# Altium footprint library Pads.PcbLib: 1 footprints
Each footprint in its own frame and in the unit in brackets; x right, y up, seen from the top. Pads: shape width x height; smd on the part's side, far side on the other; paste and mask are expansions set on the pad; w line width, h text height; cw(c..) or ccw(c..) is an arc to the next point about the centre after c.
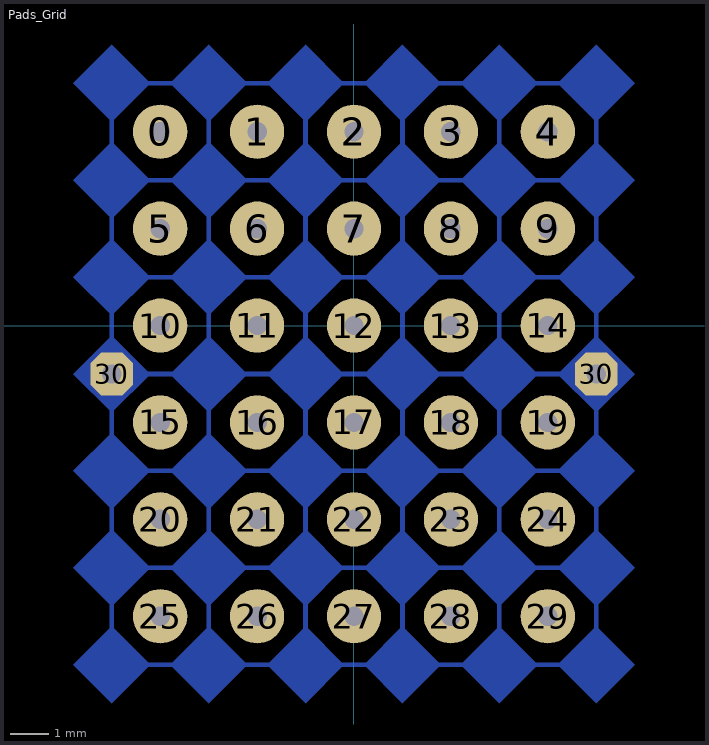
[diagram p0: the footprint, top view; thin cyan lines are the x and y axes]

## Pads_Grid [mm]
pads (32):
  round 1.4 hole 0.5: 0(-5,5) 1(-2.5,5) 2(0,5) 3(2.5,5) 4(5,5) 5(-5,2.5) 6(-2.5,2.5) 7(0,2.5) 8(2.5,2.5) 9(5,2.5) 10(-5,0) 11(-2.5,0) 12(0,0) 13(2.5,0) 14(5,0) 15(-5,-2.5) 16(-2.5,-2.5) 17(0,-2.5) 18(2.5,-2.5) 19(5,-2.5) 20(-5,-5) 21(-2.5,-5) 22(0,-5) 23(2.5,-5) 24(5,-5) 25(-5,-7.5) 26(-2.5,-7.5) 27(0,-7.5) 28(2.5,-7.5) 29(5,-7.5)
  oct 1.1x1.1 hole 0.5: 30(-6.25,-1.25) 30(6.25,-1.25)
Bottom Layer:
  region: 6.25,-2.25 7.25,-1.25 6.25,-0.25 5.25,-1.25
  region: -6.25,5.25 -5.25,6.25 -6.25,7.25 -7.25,6.25
  region: -6.25,2.75 -5.25,3.75 -6.25,4.75 -7.25,3.75
  region: -6.25,0.25 -5.25,1.25 -6.25,2.25 -7.25,1.25
  region: -6.25,-2.25 -5.25,-1.25 -6.25,-0.25 -7.25,-1.25
  region: -6.25,-4.75 -5.25,-3.75 -6.25,-2.75 -7.25,-3.75
  region: -6.25,-7.25 -5.25,-6.25 -6.25,-5.25 -7.25,-6.25
  region: -6.25,-9.75 -5.25,-8.75 -6.25,-7.75 -7.25,-8.75
  region: -3.75,-9.75 -2.75,-8.75 -3.75,-7.75 -4.75,-8.75
  region: -1.25,-9.75 -0.25,-8.75 -1.25,-7.75 -2.25,-8.75
  region: 1.25,-9.75 2.25,-8.75 1.25,-7.75 0.25,-8.75
  region: 3.75,-9.75 4.75,-8.75 3.75,-7.75 2.75,-8.75
  region: 6.25,-9.75 7.25,-8.75 6.25,-7.75 5.25,-8.75
  region: 6.25,-7.25 7.25,-6.25 6.25,-5.25 5.25,-6.25
  region: 6.25,-4.75 7.25,-3.75 6.25,-2.75 5.25,-3.75
  region: 6.25,0.25 7.25,1.25 6.25,2.25 5.25,1.25
  region: 6.25,5.25 7.25,6.25 6.25,7.25 5.25,6.25
  region: 6.25,2.75 7.25,3.75 6.25,4.75 5.25,3.75
  region: 3.75,5.25 4.75,6.25 3.75,7.25 2.75,6.25
  region: 1.25,5.25 2.25,6.25 1.25,7.25 0.25,6.25
  region: -1.25,5.25 -0.25,6.25 -1.25,7.25 -2.25,6.25
  region: -3.75,5.25 -2.75,6.25 -3.75,7.25 -4.75,6.25
  region: -3.75,-7.25 -2.75,-6.25 -3.75,-5.25 -4.75,-6.25
  region: -1.25,-7.25 -0.25,-6.25 -1.25,-5.25 -2.25,-6.25
  region: 1.25,-7.25 2.25,-6.25 1.25,-5.25 0.25,-6.25
  region: 3.75,-7.25 4.75,-6.25 3.75,-5.25 2.75,-6.25
  region: 3.75,-4.75 4.75,-3.75 3.75,-2.75 2.75,-3.75
  region: 1.25,-4.75 2.25,-3.75 1.25,-2.75 0.25,-3.75
  region: -1.25,-4.75 -0.25,-3.75 -1.25,-2.75 -2.25,-3.75
  region: -3.75,-4.75 -2.75,-3.75 -3.75,-2.75 -4.75,-3.75
  region: -3.75,-2.25 -2.75,-1.25 -3.75,-0.25 -4.75,-1.25
  region: 3.75,2.75 4.75,3.75 3.75,4.75 2.75,3.75
  region: 1.25,2.75 2.25,3.75 1.25,4.75 0.25,3.75
  region: -1.25,2.75 -0.25,3.75 -1.25,4.75 -2.25,3.75
  region: -3.75,2.75 -2.75,3.75 -3.75,4.75 -4.75,3.75
  region: -3.75,0.25 -2.75,1.25 -3.75,2.25 -4.75,1.25
  region: 3.75,0.25 4.75,1.25 3.75,2.25 2.75,1.25
  region: 3.75,-2.25 4.75,-1.25 3.75,-0.25 2.75,-1.25
  region: -1.25,-2.25 -0.25,-1.25 -1.25,-0.25 -2.25,-1.25
  region: -1.25,0.25 -0.25,1.25 -1.25,2.25 -2.25,1.25
  region: 1.25,0.25 2.25,1.25 1.25,2.25 0.25,1.25
  region: 1.25,-2.25 2.25,-1.25 1.25,-0.25 0.25,-1.25
  lines w0.12: -6.25,-6.25 -6.25,-8.75 -3.75,-8.75 ; -6.25,-6.25 -6.25,-3.75 ; -6.25,-6.25 -3.75,-6.25 ; -6.25,-3.75 -6.25,-1.25 ; -6.25,-3.75 -3.75,-3.75 ; -6.25,-1.25 -6.25,1.25 ; -6.25,-1.25 -3.75,-1.25 ; -6.25,1.25 -6.25,3.75 ; -6.25,1.25 -3.75,1.25 ; -6.25,3.75 -6.25,6.25 -3.75,6.25 ; -6.25,3.75 -3.75,3.75 ; -3.75,-8.75 -3.75,-6.25 ; -3.75,-8.75 -1.25,-8.75 ; -3.75,-6.25 -1.25,-6.25 ; -3.75,-6.25 -3.75,-3.75 ; -3.75,-3.75 -1.25,-3.75 ; -3.75,-3.75 -3.75,-1.25 ; -3.75,-1.25 -3.75,1.25 ; -3.75,-1.25 -1.25,-1.25 ; -3.75,1.25 -1.25,1.25 ; -3.75,1.25 -3.75,3.75 ; -3.75,3.75 -3.75,6.25 ; -3.75,3.75 -1.25,3.75 ; -3.75,6.25 -1.25,6.25 ; -1.25,-8.75 -1.25,-6.25 ; -1.25,-8.75 1.25,-8.75 ; -1.25,-6.25 1.25,-6.25 ; -1.25,-6.25 -1.25,-3.75 ; -1.25,-3.75 1.25,-3.75 ; -1.25,-3.75 -1.25,-1.25 ; -1.25,-1.25 -1.25,1.25 ; -1.25,-1.25 1.25,-1.25 ; -1.25,1.25 1.25,1.25 ; -1.25,1.25 -1.25,3.75 ; -1.25,3.75 -1.25,6.25 ; -1.25,3.75 1.25,3.75 ; -1.25,6.25 1.25,6.25 ; 1.25,-8.75 1.25,-6.25 ; 1.25,-8.75 3.75,-8.75 ; 1.25,-6.25 3.75,-6.25 ; 1.25,-6.25 1.25,-3.75 ; 1.25,-3.75 3.75,-3.75 ; 1.25,-3.75 1.25,-1.25 ; 1.25,-1.25 1.25,1.25 ; 1.25,-1.25 3.75,-1.25 ; 1.25,1.25 3.75,1.25 ; 1.25,1.25 1.25,3.75 ; 1.25,3.75 1.25,6.25 ; 1.25,3.75 3.75,3.75 ; 1.25,6.25 3.75,6.25 ; 3.75,-8.75 3.75,-6.25 ; 3.75,-8.75 6.25,-8.75 6.25,-6.25 ; 3.75,-6.25 6.25,-6.25 ; 3.75,-6.25 3.75,-3.75 ; 3.75,-3.75 6.25,-3.75 ; 3.75,-3.75 3.75,-1.25 ; 3.75,-1.25 6.25,-1.25 ; 3.75,-1.25 3.75,1.25 ; 3.75,1.25 6.25,1.25 ; 3.75,1.25 3.75,3.75 ; 3.75,3.75 3.75,6.25 ; 3.75,3.75 6.25,3.75 ; 3.75,6.25 6.25,6.25 6.25,3.75 ; 6.25,-6.25 6.25,-3.75 ; 6.25,-3.75 6.25,-1.25 ; 6.25,-1.25 6.25,1.25 ; 6.25,1.25 6.25,3.75
Bottom Solder:
  region: 6.25,-9.75 7.25,-8.75 6.25,-7.75 5.25,-8.75
  region: 3.75,-9.75 4.75,-8.75 3.75,-7.75 2.75,-8.75
  region: 1.25,-9.75 2.25,-8.75 1.25,-7.75 0.25,-8.75
  region: -1.25,-9.75 -0.25,-8.75 -1.25,-7.75 -2.25,-8.75
  region: -3.75,-9.75 -2.75,-8.75 -3.75,-7.75 -4.75,-8.75
  region: -6.25,-9.75 -5.25,-8.75 -6.25,-7.75 -7.25,-8.75
  region: 6.25,-7.25 7.25,-6.25 6.25,-5.25 5.25,-6.25
  region: 3.75,-7.25 4.75,-6.25 3.75,-5.25 2.75,-6.25
  region: 1.25,-7.25 2.25,-6.25 1.25,-5.25 0.25,-6.25
  region: -1.25,-7.25 -0.25,-6.25 -1.25,-5.25 -2.25,-6.25
  region: -3.75,-7.25 -2.75,-6.25 -3.75,-5.25 -4.75,-6.25
  region: -6.25,-7.25 -5.25,-6.25 -6.25,-5.25 -7.25,-6.25
  region: 6.25,-4.75 7.25,-3.75 6.25,-2.75 5.25,-3.75
  region: 3.75,-4.75 4.75,-3.75 3.75,-2.75 2.75,-3.75
  region: 1.25,-4.75 2.25,-3.75 1.25,-2.75 0.25,-3.75
  region: -1.25,-4.75 -0.25,-3.75 -1.25,-2.75 -2.25,-3.75
  region: -3.75,-4.75 -2.75,-3.75 -3.75,-2.75 -4.75,-3.75
  region: -6.25,-4.75 -5.25,-3.75 -6.25,-2.75 -7.25,-3.75
  region: 6.25,-2.25 7.25,-1.25 6.25,-0.25 5.25,-1.25
  region: 3.75,-2.25 4.75,-1.25 3.75,-0.25 2.75,-1.25
  region: 1.25,-2.25 2.25,-1.25 1.25,-0.25 0.25,-1.25
  region: -1.25,-2.25 -0.25,-1.25 -1.25,-0.25 -2.25,-1.25
  region: -3.75,-2.25 -2.75,-1.25 -3.75,-0.25 -4.75,-1.25
  region: -6.25,-2.25 -5.25,-1.25 -6.25,-0.25 -7.25,-1.25
  region: 6.25,0.25 7.25,1.25 6.25,2.25 5.25,1.25
  region: 3.75,0.25 4.75,1.25 3.75,2.25 2.75,1.25
  region: 1.25,0.25 2.25,1.25 1.25,2.25 0.25,1.25
  region: -1.25,0.25 -0.25,1.25 -1.25,2.25 -2.25,1.25
  region: -3.75,0.25 -2.75,1.25 -3.75,2.25 -4.75,1.25
  region: -6.25,0.25 -5.25,1.25 -6.25,2.25 -7.25,1.25
  region: 6.25,2.75 7.25,3.75 6.25,4.75 5.25,3.75
  region: 3.75,2.75 4.75,3.75 3.75,4.75 2.75,3.75
  region: 1.25,2.75 2.25,3.75 1.25,4.75 0.25,3.75
  region: -1.25,2.75 -0.25,3.75 -1.25,4.75 -2.25,3.75
  region: -3.75,2.75 -2.75,3.75 -3.75,4.75 -4.75,3.75
  region: -6.25,2.75 -5.25,3.75 -6.25,4.75 -7.25,3.75
  region: -6.25,5.25 -5.25,6.25 -6.25,7.25 -7.25,6.25
  region: -3.75,5.25 -2.75,6.25 -3.75,7.25 -4.75,6.25
  region: -1.25,5.25 -0.25,6.25 -1.25,7.25 -2.25,6.25
  region: 1.25,5.25 2.25,6.25 1.25,7.25 0.25,6.25
  region: 3.75,5.25 4.75,6.25 3.75,7.25 2.75,6.25
  region: 6.25,5.25 7.25,6.25 6.25,7.25 5.25,6.25
  lines w0.12: -6.25,-6.25 -3.75,-6.25 ; -6.25,-6.25 -6.25,-8.75 -3.75,-8.75 ; -6.25,-6.25 -6.25,-3.75 ; -6.25,-3.75 -3.75,-3.75 ; -6.25,-3.75 -6.25,-1.25 ; -6.25,-1.25 -3.75,-1.25 ; -6.25,-1.25 -6.25,1.25 ; -6.25,1.25 -3.75,1.25 ; -6.25,1.25 -6.25,3.75 ; -6.25,3.75 -3.75,3.75 ; -6.25,3.75 -6.25,6.25 -3.75,6.25 ; -3.75,-8.75 -1.25,-8.75 ; -3.75,-8.75 -3.75,-6.25 ; -3.75,-6.25 -1.25,-6.25 ; -3.75,-6.25 -3.75,-3.75 ; -3.75,-3.75 -1.25,-3.75 ; -3.75,-3.75 -3.75,-1.25 ; -3.75,-1.25 -1.25,-1.25 ; -3.75,-1.25 -3.75,1.25 ; -3.75,1.25 -1.25,1.25 ; -3.75,1.25 -3.75,3.75 ; -3.75,3.75 -1.25,3.75 ; -3.75,3.75 -3.75,6.25 ; -3.75,6.25 -1.25,6.25 ; -1.25,-8.75 1.25,-8.75 ; -1.25,-8.75 -1.25,-6.25 ; -1.25,-6.25 1.25,-6.25 ; -1.25,-6.25 -1.25,-3.75 ; -1.25,-3.75 1.25,-3.75 ; -1.25,-3.75 -1.25,-1.25 ; -1.25,-1.25 1.25,-1.25 ; -1.25,-1.25 -1.25,1.25 ; -1.25,1.25 1.25,1.25 ; -1.25,1.25 -1.25,3.75 ; -1.25,3.75 1.25,3.75 ; -1.25,3.75 -1.25,6.25 ; -1.25,6.25 1.25,6.25 ; 1.25,-8.75 3.75,-8.75 ; 1.25,-8.75 1.25,-6.25 ; 1.25,-6.25 3.75,-6.25 ; 1.25,-6.25 1.25,-3.75 ; 1.25,-3.75 3.75,-3.75 ; 1.25,-3.75 1.25,-1.25 ; 1.25,-1.25 3.75,-1.25 ; 1.25,-1.25 1.25,1.25 ; 1.25,1.25 3.75,1.25 ; 1.25,1.25 1.25,3.75 ; 1.25,3.75 3.75,3.75 ; 1.25,3.75 1.25,6.25 ; 1.25,6.25 3.75,6.25 ; 3.75,-8.75 6.25,-8.75 6.25,-6.25 ; 3.75,-8.75 3.75,-6.25 ; 3.75,-6.25 6.25,-6.25 ; 3.75,-6.25 3.75,-3.75 ; 3.75,-3.75 6.25,-3.75 ; 3.75,-3.75 3.75,-1.25 ; 3.75,-1.25 6.25,-1.25 ; 3.75,-1.25 3.75,1.25 ; 3.75,1.25 6.25,1.25 ; 3.75,1.25 3.75,3.75 ; 3.75,3.75 6.25,3.75 ; 3.75,3.75 3.75,6.25 ; 3.75,6.25 6.25,6.25 6.25,3.75 ; 6.25,-6.25 6.25,-3.75 ; 6.25,-3.75 6.25,-1.25 ; 6.25,-1.25 6.25,1.25 ; 6.25,1.25 6.25,3.75